# Altium schematic symbol library LM3886TF&slash_NOPB.SchLib: 2 symbols
Pins are listed as number, name and electrical type; pins without a type are passive.

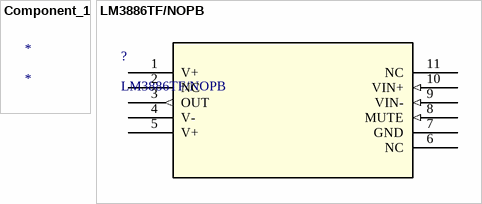
[diagram p0: symbols Component_1 to LM3886TF/NOPB]

## Component_1
designator *

## LM3886TF/NOPB
designator ?
No Description Available; Mfr_Name: Texas Instruments; Copyright: Copyright (C) 2021 Ultra Librarian. All rights reserved.; Manufacturer_Part_Number: LM3886TF/NOPB; RefDes: RefDes; Type: DEV
footprint TF11B
pins: 1 V+ (power), 2 NC, 3 OUT (out), 4 V- (power), 5 V+ (power), 6 NC, 7 GND (power), 8 MUTE (in), 9 VIN- (in), 10 VIN+ (in), 11 NC